# Altium schematic symbol library CenaChip.SchLib: 1 symbol
Pins are listed as number, name and electrical type; pins without a type are passive.

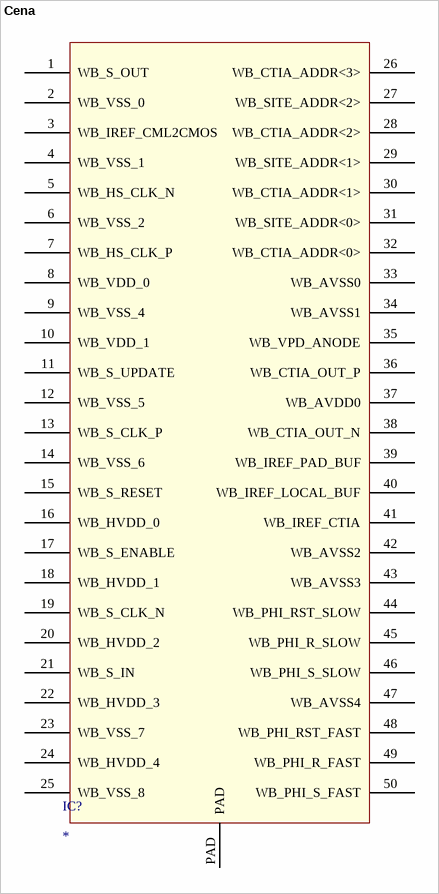
[diagram p0: symbol Cena]

## Cena
designator IC?
footprint Cena_WB_4/4
footprint Cena_WB_6/6
pins: 1 WB_S_OUT, 2 WB_VSS_0, 3 WB_IREF_CML2CMOS, 4 WB_VSS_1, 5 WB_HS_CLK_N, 6 WB_VSS_2, 7 WB_HS_CLK_P, 8 WB_VDD_0, 9 WB_VSS_4, 10 WB_VDD_1, 11 WB_S_UPDATE, 12 WB_VSS_5, 13 WB_S_CLK_P, 14 WB_VSS_6, 15 WB_S_RESET, 16 WB_HVDD_0, 17 WB_S_ENABLE, 18 WB_HVDD_1, 19 WB_S_CLK_N, 20 WB_HVDD_2, 21 WB_S_IN, 22 WB_HVDD_3, 23 WB_VSS_7, 24 WB_HVDD_4, 25 WB_VSS_8, 26 WB_CTIA_ADDR<3>, 27 WB_SITE_ADDR<2>, 28 WB_CTIA_ADDR<2>, 29 WB_SITE_ADDR<1>, 30 WB_CTIA_ADDR<1>, 31 WB_SITE_ADDR<0>, 32 WB_CTIA_ADDR<0>, 33 WB_AVSS0, 34 WB_AVSS1, 35 WB_VPD_ANODE, 36 WB_CTIA_OUT_P, 37 WB_AVDD0, 38 WB_CTIA_OUT_N, 39 WB_IREF_PAD_BUF, 40 WB_IREF_LOCAL_BUF, 41 WB_IREF_CTIA, 42 WB_AVSS2, 43 WB_AVSS3, 44 WB_PHI_RST_SLOW, 45 WB_PHI_R_SLOW, 46 WB_PHI_S_SLOW, 47 WB_AVSS4, 48 WB_PHI_RST_FAST, 49 WB_PHI_R_FAST, 50 WB_PHI_S_FAST, PAD